# EAGLE library part DRV8871 (library RoboJackets-ICs)
3.6-A Brushed DC Motor Driver With Internal Current Sense and PWM Control https://www.ti.com/general/docs/suppproductinfo.tsp?distId=10&gotoUrl=https%3A%2F%2Fwww.ti.com%2Flit%2Fgpn%2Fdrv8871
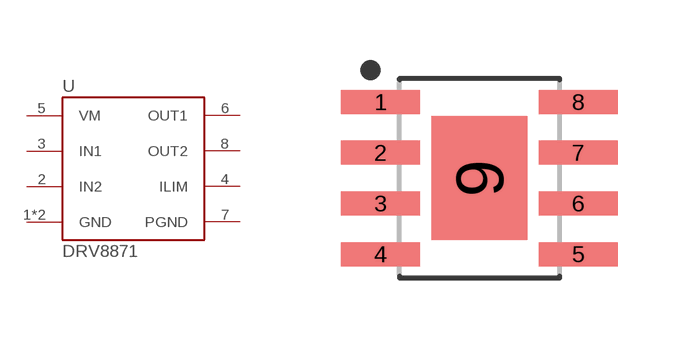
[diagram p8: symbol with the pads of HSOP-8; footprint HSOP-8]

Designator prefix U

## DRV8871HSOP-8 (DKPN: 296-43024-1-ND)  [HSOP-8]
1  GND  pwr
2  IN2  in
3  IN1  in
4  ILIM  pas
5  VM  pwr
6  OUT1  out
7  PGND  pwr
8  OUT2  out
9  GND  pwr

## Footprint HSOP-8 (pad centres in mm)
8-SOIC, 1.27 mm pitch, 6.00 mm span, 4.90 X 3.90 X 1.70 mm body, 3.10 X 2.40 mm thermal pad 8-pin SOIC package with 1.27 mm pitch, 6.00 mm span with body size 4.90 X 3.90 X 1.70 mm and thermal pad size 3.10 X 2.40 mm
smd 1.968 x 0.599: 1 -2.473,1.905; 2 -2.473,0.635; 3 -2.473,-0.635; 4 -2.473,-1.905; 5 2.473,-1.905; 6 2.473,-0.635; 7 2.473,0.635; 8 2.473,1.905
smd 2.4 x 3.1: 9 0,0